# Altium integrated library TI Data Converters Analog to Digital Converter.IntLib: 2197 symbols (part 61 of 168)
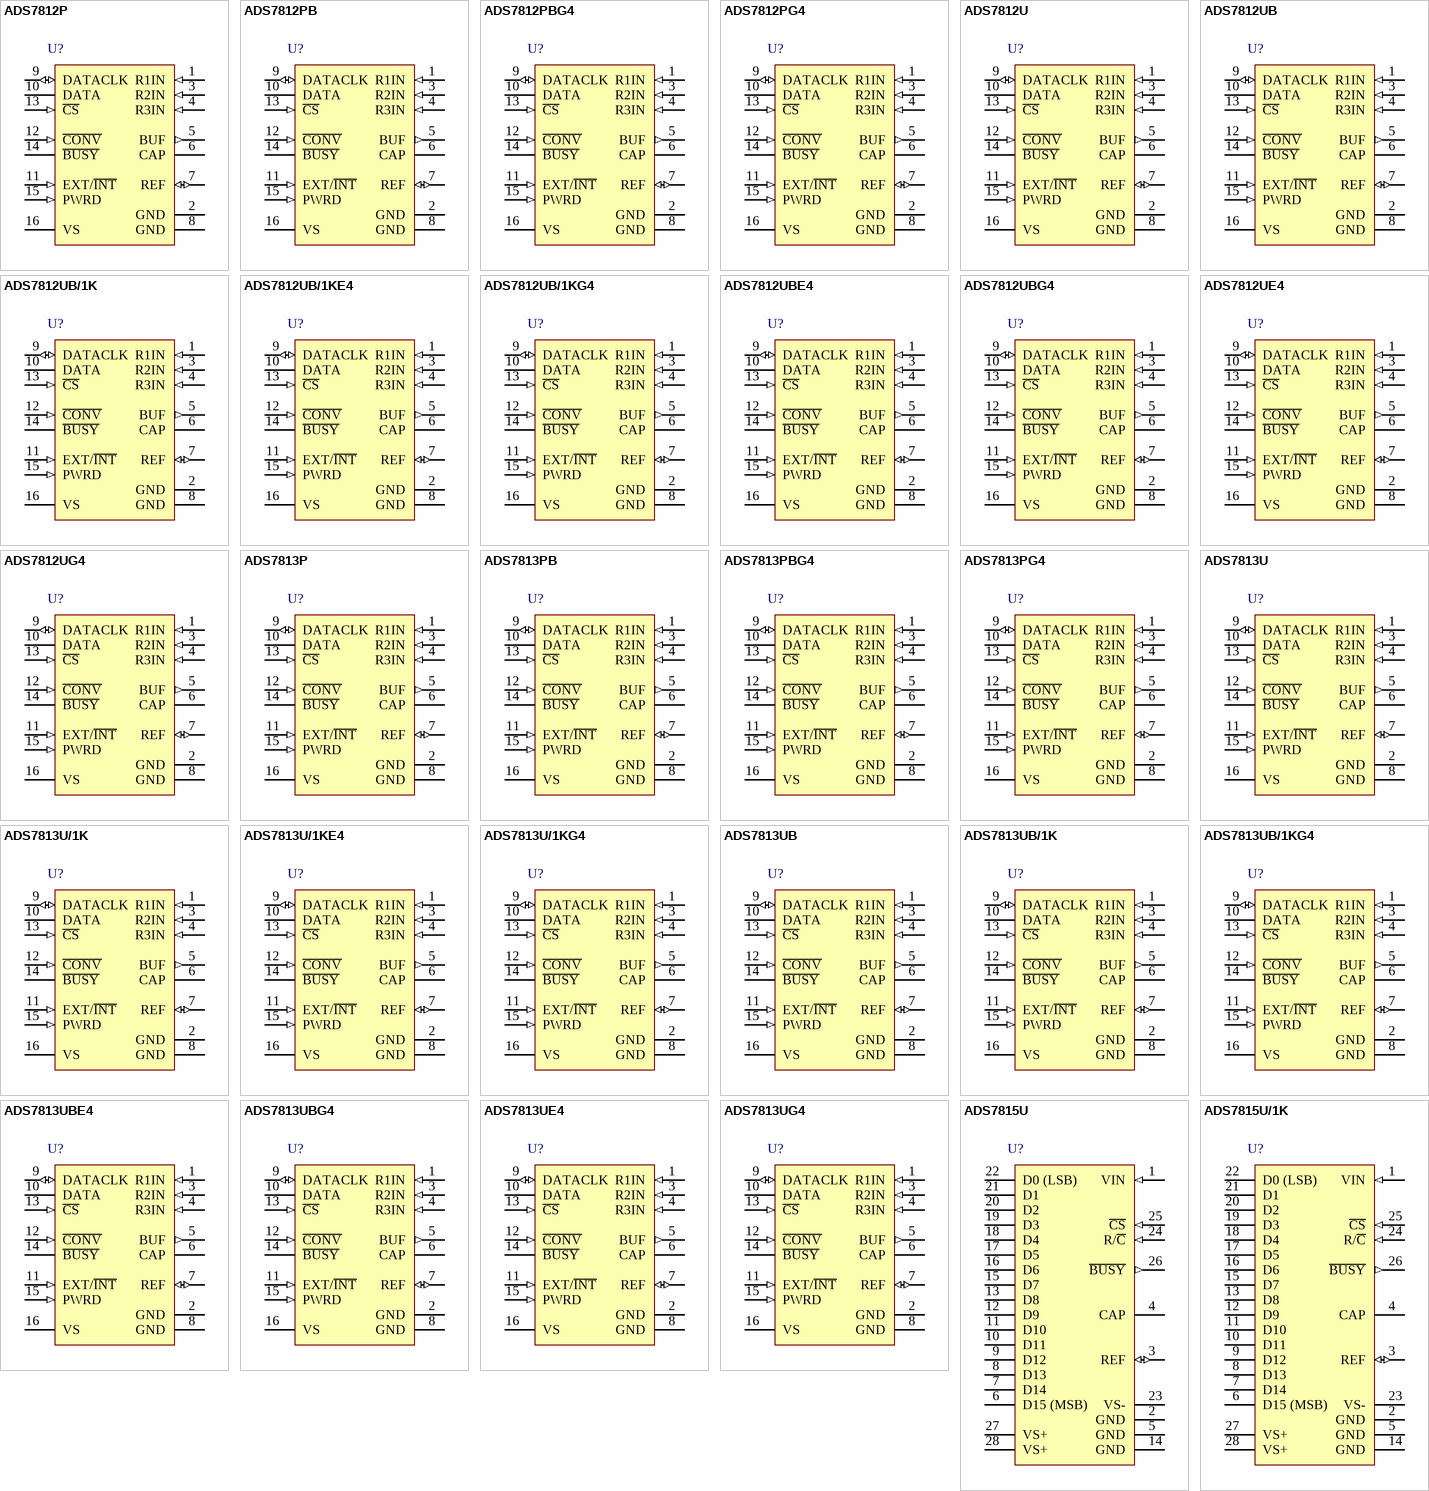
[diagram p186: symbols ADS7812P to ADS7815U/1K]

## ADS7813U/1KG4
designator U?
Low-Power, Serial 16-Bit Sampling ADC, -40 to 85 degC, 16-pin SOIC (DW16), Green (RoHS & no Sb/Br); Manufacturer: Texas Instruments; PartNumber: ADS7813U/1KG4; # Input Channels: 1; Analog Voltage AV/DD(Max)(V): 5.25; Analog Voltage AV/DD(Min)(V): 4.75; Architecture: SAR; INL(Max)(+/-LSB): 3; Interface: Serial SPI; Resolution(Bits): 16; Sample Rate (max)(SPS): 40k; SFDR(dB): 100; SINAD(dB): 89; SubFamily: Precision ADC (<=10MSPS); DatasheetVersion: SBAS043C; PackageVersion: 4040000-2/G, 01/2011; PackageReference: DW16; PackageDescription: 16-Pin Plastic Small Outline, Body 10.30 x 7.50 mm, Pitch 1.27 mm; Supplier 1: Digi-Key; Supplier Part Number 1: 296-19396-2-ND; Supplier 2: Digi-Key; Supplier Part Number 2: 296-19396-1-ND; Supplier 3: Digi-Key; Supplier Part Number 3: 296-19396-6-ND; Supplier 4: Mouser; Supplier Part Number 4: 595-ADS8413IBRGZT; Digital Supply(Max)(V): 5.25; Digital Supply(Min)(V): 4.75; Eco-Plan: Green (RoHS & no Sb/Br); SNR(dB): 89; Mounting Technology: Surface Mount; Code_JEDEC: MS-013; ComponentLink1Description: Manufacturer URL; ComponentLink1URL: http://www.ti.com/; ComponentLink2Description: Datasheet; ComponentLink2URL: http://www.ti.com/general/docs/lit/getliterature.tsp?genericPartNumber=ADS7813&fileType=pdf; ComponentLink3Description: Package Specification; ComponentLink3URL: http://www.ti.com/litv/pdf/msoi003g
footprint TI-DW16_N (SOIC, 16-Leads, Body 10.3x7.5mm, Pitch 1.27mm, IPC Medium Density)
footprint TI-DW16_L (SOIC, 16-Leads, Body 10.3x7.5mm, Pitch 1.27mm, IPC High Density)
footprint TI-DW16_M (SOIC, 16-Leads, Body 10.3x7.5mm, Pitch 1.27mm, IPC Low Density)
pins: 1 R1IN (in) "Analog input", 2 GND (power) "Ground.", 3 R2IN (in) "Analog input", 4 R3IN (in) "Analog input", 5 BUF (out) "Reference buffer output. Connect to R1IN, R2IN, or R3IN as needed", 6 CAP "Reference buffer compensation node. Decouple to ground with a 1-uF tantalum capacitor in parallel with a 0.01uF ceramic capacitor.", 7 REF (io) "Reference input/output. Outputs internal 2.5V reference via a series 4kohm resistor. Decouple this voltage with a 1uF to 2.2uF tantalum capacitor to ground. If an external reference voltage is applied to this pin, it (See Datasheet)", 8 GND (power) "Ground.", 9 DATACLK (io) "Data clock pin. With EXT/I\N\T\ low, this pin is an output and provides the synchronous clock for the serial data. The output is 3-stated when C\S\ is high. With EXT/I\N\T\ high, this pin is an input and the serial data (See Datasheet)", 10 DATA (hiz) "Serial data output. The serial data are always the result of the last completed conversion and are synchronized to DATACLK. If DATACLK is from the internal clock (EXT/I\N\T\ low), the serial data are valid on both the rising (See Datasheet)", 11 EXT/~{INT} (in), 12 ~{CONV} (in) "Convert input. A falling edge on this input puts the internal sample/hold into the hold state and starts a conversion regardless of the state of C\S\. If a conversion is already in progress, the falling edge is ignored. If (See Datasheet)", 13 ~{CS} (in) "Chip select. This input 3-states all outputs when high and enables all outputs when low, including DATA, B\U\S\Y\, and DATACLK (when EXT/I\N\T\ is low). Note that a falling edge on C\O\N\V\ initiates a conversion even when (See Datasheet)", 14 ~{BUSY} (hiz) "Busy output. When a conversion starts, B\U\S\Y\ goes low and remains low throughout the conversion. If EXT/I\N\T\ is low, data are serially transmitted while B\U\S\Y\ is low. B\U\S\Y\ is 3-stated when C\S\ is high.", 15 PWRD (in) "Power-down input. When high, the majority of the ADS7812/ADS7813/ADS8513 circuitry is placed in a low-power mode and power consumption is significantly reduced.", 16 VS (power) "+5V supply input. For best performance, decouple to ground with a 0.1uF ceramic capacitor in parallel with a 10uF tantalum capacitor."

## ADS7813UB
designator U?
Low-Power, Serial 16-Bit Sampling ADC, -40 to 85 degC, 16-pin SOIC (DW16), Green (RoHS & no Sb/Br); Manufacturer: Texas Instruments; PartNumber: ADS7813UB; # Input Channels: 1; Analog Voltage AV/DD(Max)(V): 5.25; Analog Voltage AV/DD(Min)(V): 4.75; Architecture: SAR; INL(Max)(+/-LSB): 2; Interface: Serial SPI; Resolution(Bits): 16; Sample Rate (max)(SPS): 40k; SFDR(dB): 102; SINAD(dB): 89; SubFamily: Precision ADC (<=10MSPS); DatasheetVersion: SBAS043C; PackageVersion: 4040000-2/G, 01/2011; PackageReference: DW16; PackageDescription: 16-Pin Plastic Small Outline, Body 10.30 x 7.50 mm, Pitch 1.27 mm; Supplier 1: Digi-Key; Supplier Part Number 1: ADS8413IBRGZTG4-ND; Supplier 2: Mouser; Supplier Part Number 2: 595-ADS8413IBRGZTG4; Digital Supply(Max)(V): 5.25; Digital Supply(Min)(V): 4.75; Eco-Plan: Green (RoHS & no Sb/Br); SNR(dB): 89; Mounting Technology: Surface Mount; Code_JEDEC: MS-013; ComponentLink1Description: Manufacturer URL; ComponentLink1URL: http://www.ti.com/; ComponentLink2Description: Datasheet; ComponentLink2URL: http://www.ti.com/general/docs/lit/getliterature.tsp?genericPartNumber=ADS7813&fileType=pdf; ComponentLink3Description: Package Specification; ComponentLink3URL: http://www.ti.com/litv/pdf/msoi003g
footprint TI-DW16_N (SOIC, 16-Leads, Body 10.3x7.5mm, Pitch 1.27mm, IPC Medium Density)
footprint TI-DW16_L (SOIC, 16-Leads, Body 10.3x7.5mm, Pitch 1.27mm, IPC High Density)
footprint TI-DW16_M (SOIC, 16-Leads, Body 10.3x7.5mm, Pitch 1.27mm, IPC Low Density)
pins: 1 R1IN (in) "Analog input", 2 GND (power) "Ground.", 3 R2IN (in) "Analog input", 4 R3IN (in) "Analog input", 5 BUF (out) "Reference buffer output. Connect to R1IN, R2IN, or R3IN as needed", 6 CAP "Reference buffer compensation node. Decouple to ground with a 1-uF tantalum capacitor in parallel with a 0.01uF ceramic capacitor.", 7 REF (io) "Reference input/output. Outputs internal 2.5V reference via a series 4kohm resistor. Decouple this voltage with a 1uF to 2.2uF tantalum capacitor to ground. If an external reference voltage is applied to this pin, it (See Datasheet)", 8 GND (power) "Ground.", 9 DATACLK (io) "Data clock pin. With EXT/I\N\T\ low, this pin is an output and provides the synchronous clock for the serial data. The output is 3-stated when C\S\ is high. With EXT/I\N\T\ high, this pin is an input and the serial data (See Datasheet)", 10 DATA (hiz) "Serial data output. The serial data are always the result of the last completed conversion and are synchronized to DATACLK. If DATACLK is from the internal clock (EXT/I\N\T\ low), the serial data are valid on both the rising (See Datasheet)", 11 EXT/~{INT} (in), 12 ~{CONV} (in) "Convert input. A falling edge on this input puts the internal sample/hold into the hold state and starts a conversion regardless of the state of C\S\. If a conversion is already in progress, the falling edge is ignored. If (See Datasheet)", 13 ~{CS} (in) "Chip select. This input 3-states all outputs when high and enables all outputs when low, including DATA, B\U\S\Y\, and DATACLK (when EXT/I\N\T\ is low). Note that a falling edge on C\O\N\V\ initiates a conversion even when (See Datasheet)", 14 ~{BUSY} (hiz) "Busy output. When a conversion starts, B\U\S\Y\ goes low and remains low throughout the conversion. If EXT/I\N\T\ is low, data are serially transmitted while B\U\S\Y\ is low. B\U\S\Y\ is 3-stated when C\S\ is high.", 15 PWRD (in) "Power-down input. When high, the majority of the ADS7812/ADS7813/ADS8513 circuitry is placed in a low-power mode and power consumption is significantly reduced.", 16 VS (power) "+5V supply input. For best performance, decouple to ground with a 0.1uF ceramic capacitor in parallel with a 10uF tantalum capacitor."

## ADS7813UB/1K
designator U?
Low-Power, Serial 16-Bit Sampling ADC, -40 to 85 degC, 16-pin SOIC (DW16), Green (RoHS & no Sb/Br); Manufacturer: Texas Instruments; PartNumber: ADS7813UB/1K; # Input Channels: 1; Analog Voltage AV/DD(Max)(V): 5.25; Analog Voltage AV/DD(Min)(V): 4.75; Architecture: SAR; INL(Max)(+/-LSB): 2; Interface: Serial SPI; Resolution(Bits): 16; Sample Rate (max)(SPS): 40k; SFDR(dB): 102; SINAD(dB): 89; SubFamily: Precision ADC (<=10MSPS); DatasheetVersion: SBAS043C; PackageVersion: 4040000-2/G, 01/2011; PackageReference: DW16; PackageDescription: 16-Pin Plastic Small Outline, Body 10.30 x 7.50 mm, Pitch 1.27 mm; Supplier 1: Digi-Key; Supplier Part Number 1: ADS1258IRTCR-ND; Supplier 2: Newark; Supplier Part Number 2: 63K4827; Supplier 3: Mouser; Supplier Part Number 3: 595-ADS1258IRTCR; Digital Supply(Max)(V): 5.25; Digital Supply(Min)(V): 4.75; Eco-Plan: Green (RoHS & no Sb/Br); SNR(dB): 89; Mounting Technology: Surface Mount; Code_JEDEC: MS-013; ComponentLink1Description: Manufacturer URL; ComponentLink1URL: http://www.ti.com/; ComponentLink2Description: Datasheet; ComponentLink2URL: http://www.ti.com/general/docs/lit/getliterature.tsp?genericPartNumber=ADS7813&fileType=pdf; ComponentLink3Description: Package Specification; ComponentLink3URL: http://www.ti.com/litv/pdf/msoi003g
footprint TI-DW16_N (SOIC, 16-Leads, Body 10.3x7.5mm, Pitch 1.27mm, IPC Medium Density)
footprint TI-DW16_L (SOIC, 16-Leads, Body 10.3x7.5mm, Pitch 1.27mm, IPC High Density)
footprint TI-DW16_M (SOIC, 16-Leads, Body 10.3x7.5mm, Pitch 1.27mm, IPC Low Density)
pins: 1 R1IN (in) "Analog input", 2 GND (power) "Ground.", 3 R2IN (in) "Analog input", 4 R3IN (in) "Analog input", 5 BUF (out) "Reference buffer output. Connect to R1IN, R2IN, or R3IN as needed", 6 CAP "Reference buffer compensation node. Decouple to ground with a 1-uF tantalum capacitor in parallel with a 0.01uF ceramic capacitor.", 7 REF (io) "Reference input/output. Outputs internal 2.5V reference via a series 4kohm resistor. Decouple this voltage with a 1uF to 2.2uF tantalum capacitor to ground. If an external reference voltage is applied to this pin, it (See Datasheet)", 8 GND (power) "Ground.", 9 DATACLK (io) "Data clock pin. With EXT/I\N\T\ low, this pin is an output and provides the synchronous clock for the serial data. The output is 3-stated when C\S\ is high. With EXT/I\N\T\ high, this pin is an input and the serial data (See Datasheet)", 10 DATA (hiz) "Serial data output. The serial data are always the result of the last completed conversion and are synchronized to DATACLK. If DATACLK is from the internal clock (EXT/I\N\T\ low), the serial data are valid on both the rising (See Datasheet)", 11 EXT/~{INT} (in), 12 ~{CONV} (in) "Convert input. A falling edge on this input puts the internal sample/hold into the hold state and starts a conversion regardless of the state of C\S\. If a conversion is already in progress, the falling edge is ignored. If (See Datasheet)", 13 ~{CS} (in) "Chip select. This input 3-states all outputs when high and enables all outputs when low, including DATA, B\U\S\Y\, and DATACLK (when EXT/I\N\T\ is low). Note that a falling edge on C\O\N\V\ initiates a conversion even when (See Datasheet)", 14 ~{BUSY} (hiz) "Busy output. When a conversion starts, B\U\S\Y\ goes low and remains low throughout the conversion. If EXT/I\N\T\ is low, data are serially transmitted while B\U\S\Y\ is low. B\U\S\Y\ is 3-stated when C\S\ is high.", 15 PWRD (in) "Power-down input. When high, the majority of the ADS7812/ADS7813/ADS8513 circuitry is placed in a low-power mode and power consumption is significantly reduced.", 16 VS (power) "+5V supply input. For best performance, decouple to ground with a 0.1uF ceramic capacitor in parallel with a 10uF tantalum capacitor."

## ADS7813UB/1KG4
designator U?
Low-Power, Serial 16-Bit Sampling ADC, -40 to 85 degC, 16-pin SOIC (DW16), Green (RoHS & no Sb/Br); Manufacturer: Texas Instruments; PartNumber: ADS7813UB/1KG4; # Input Channels: 1; Analog Voltage AV/DD(Max)(V): 5.25; Analog Voltage AV/DD(Min)(V): 4.75; Architecture: SAR; INL(Max)(+/-LSB): 2; Interface: Serial SPI; Resolution(Bits): 16; Sample Rate (max)(SPS): 40k; SFDR(dB): 102; SINAD(dB): 89; SubFamily: Precision ADC (<=10MSPS); DatasheetVersion: SBAS043C; PackageVersion: 4040000-2/G, 01/2011; PackageReference: DW16; PackageDescription: 16-Pin Plastic Small Outline, Body 10.30 x 7.50 mm, Pitch 1.27 mm; Supplier 1: Digi-Key; Supplier Part Number 1: ADS1258IRTCRG4-ND; Supplier 2: Mouser; Supplier Part Number 2: 595-ADS1258IRTCRG4; Digital Supply(Max)(V): 5.25; Digital Supply(Min)(V): 4.75; Eco-Plan: Green (RoHS & no Sb/Br); SNR(dB): 89; Mounting Technology: Surface Mount; Code_JEDEC: MS-013; ComponentLink1Description: Manufacturer URL; ComponentLink1URL: http://www.ti.com/; ComponentLink2Description: Datasheet; ComponentLink2URL: http://www.ti.com/general/docs/lit/getliterature.tsp?genericPartNumber=ADS7813&fileType=pdf; ComponentLink3Description: Package Specification; ComponentLink3URL: http://www.ti.com/litv/pdf/msoi003g
footprint TI-DW16_N (SOIC, 16-Leads, Body 10.3x7.5mm, Pitch 1.27mm, IPC Medium Density)
footprint TI-DW16_L (SOIC, 16-Leads, Body 10.3x7.5mm, Pitch 1.27mm, IPC High Density)
footprint TI-DW16_M (SOIC, 16-Leads, Body 10.3x7.5mm, Pitch 1.27mm, IPC Low Density)
pins: 1 R1IN (in) "Analog input", 2 GND (power) "Ground.", 3 R2IN (in) "Analog input", 4 R3IN (in) "Analog input", 5 BUF (out) "Reference buffer output. Connect to R1IN, R2IN, or R3IN as needed", 6 CAP "Reference buffer compensation node. Decouple to ground with a 1-uF tantalum capacitor in parallel with a 0.01uF ceramic capacitor.", 7 REF (io) "Reference input/output. Outputs internal 2.5V reference via a series 4kohm resistor. Decouple this voltage with a 1uF to 2.2uF tantalum capacitor to ground. If an external reference voltage is applied to this pin, it (See Datasheet)", 8 GND (power) "Ground.", 9 DATACLK (io) "Data clock pin. With EXT/I\N\T\ low, this pin is an output and provides the synchronous clock for the serial data. The output is 3-stated when C\S\ is high. With EXT/I\N\T\ high, this pin is an input and the serial data (See Datasheet)", 10 DATA (hiz) "Serial data output. The serial data are always the result of the last completed conversion and are synchronized to DATACLK. If DATACLK is from the internal clock (EXT/I\N\T\ low), the serial data are valid on both the rising (See Datasheet)", 11 EXT/~{INT} (in), 12 ~{CONV} (in) "Convert input. A falling edge on this input puts the internal sample/hold into the hold state and starts a conversion regardless of the state of C\S\. If a conversion is already in progress, the falling edge is ignored. If (See Datasheet)", 13 ~{CS} (in) "Chip select. This input 3-states all outputs when high and enables all outputs when low, including DATA, B\U\S\Y\, and DATACLK (when EXT/I\N\T\ is low). Note that a falling edge on C\O\N\V\ initiates a conversion even when (See Datasheet)", 14 ~{BUSY} (hiz) "Busy output. When a conversion starts, B\U\S\Y\ goes low and remains low throughout the conversion. If EXT/I\N\T\ is low, data are serially transmitted while B\U\S\Y\ is low. B\U\S\Y\ is 3-stated when C\S\ is high.", 15 PWRD (in) "Power-down input. When high, the majority of the ADS7812/ADS7813/ADS8513 circuitry is placed in a low-power mode and power consumption is significantly reduced.", 16 VS (power) "+5V supply input. For best performance, decouple to ground with a 0.1uF ceramic capacitor in parallel with a 10uF tantalum capacitor."

## ADS7813UBE4
designator U?
Low-Power, Serial 16-Bit Sampling ADC, -40 to 85 degC, 16-pin SOIC (DW16), Green (RoHS & no Sb/Br); Manufacturer: Texas Instruments; PartNumber: ADS7813UBE4; # Input Channels: 1; Analog Voltage AV/DD(Max)(V): 5.25; Analog Voltage AV/DD(Min)(V): 4.75; Architecture: SAR; INL(Max)(+/-LSB): 2; Interface: Serial SPI; Resolution(Bits): 16; Sample Rate (max)(SPS): 40k; SFDR(dB): 102; SINAD(dB): 89; SubFamily: Precision ADC (<=10MSPS); DatasheetVersion: SBAS043C; PackageVersion: 4040000-2/G, 01/2011; PackageReference: DW16; PackageDescription: 16-Pin Plastic Small Outline, Body 10.30 x 7.50 mm, Pitch 1.27 mm; Supplier 1: Digi-Key; Supplier Part Number 1: 296-18674-2-ND; Supplier 2: Digi-Key; Supplier Part Number 2: 296-18674-1-ND; Supplier 3: Digi-Key; Supplier Part Number 3: 296-18674-6-ND; Supplier 4: Farnell; Supplier Part Number 4: 1470335; Supplier 5: Newark; Supplier Part Number 5: 63K4828; Supplier 6: Mouser; Supplier Part Number 6: 595-ADS1258IRTCT; Digital Supply(Max)(V): 5.25; Digital Supply(Min)(V): 4.75; Eco-Plan: Green (RoHS & no Sb/Br); SNR(dB): 89; Mounting Technology: Surface Mount; Code_JEDEC: MS-013; ComponentLink1Description: Manufacturer URL; ComponentLink1URL: http://www.ti.com/; ComponentLink2Description: Datasheet; ComponentLink2URL: http://www.ti.com/general/docs/lit/getliterature.tsp?genericPartNumber=ADS7813&fileType=pdf; ComponentLink3Description: Package Specification; ComponentLink3URL: http://www.ti.com/litv/pdf/msoi003g
footprint TI-DW16_N (SOIC, 16-Leads, Body 10.3x7.5mm, Pitch 1.27mm, IPC Medium Density)
footprint TI-DW16_L (SOIC, 16-Leads, Body 10.3x7.5mm, Pitch 1.27mm, IPC High Density)
footprint TI-DW16_M (SOIC, 16-Leads, Body 10.3x7.5mm, Pitch 1.27mm, IPC Low Density)
pins: 1 R1IN (in) "Analog input", 2 GND (power) "Ground.", 3 R2IN (in) "Analog input", 4 R3IN (in) "Analog input", 5 BUF (out) "Reference buffer output. Connect to R1IN, R2IN, or R3IN as needed", 6 CAP "Reference buffer compensation node. Decouple to ground with a 1-uF tantalum capacitor in parallel with a 0.01uF ceramic capacitor.", 7 REF (io) "Reference input/output. Outputs internal 2.5V reference via a series 4kohm resistor. Decouple this voltage with a 1uF to 2.2uF tantalum capacitor to ground. If an external reference voltage is applied to this pin, it (See Datasheet)", 8 GND (power) "Ground.", 9 DATACLK (io) "Data clock pin. With EXT/I\N\T\ low, this pin is an output and provides the synchronous clock for the serial data. The output is 3-stated when C\S\ is high. With EXT/I\N\T\ high, this pin is an input and the serial data (See Datasheet)", 10 DATA (hiz) "Serial data output. The serial data are always the result of the last completed conversion and are synchronized to DATACLK. If DATACLK is from the internal clock (EXT/I\N\T\ low), the serial data are valid on both the rising (See Datasheet)", 11 EXT/~{INT} (in), 12 ~{CONV} (in) "Convert input. A falling edge on this input puts the internal sample/hold into the hold state and starts a conversion regardless of the state of C\S\. If a conversion is already in progress, the falling edge is ignored. If (See Datasheet)", 13 ~{CS} (in) "Chip select. This input 3-states all outputs when high and enables all outputs when low, including DATA, B\U\S\Y\, and DATACLK (when EXT/I\N\T\ is low). Note that a falling edge on C\O\N\V\ initiates a conversion even when (See Datasheet)", 14 ~{BUSY} (hiz) "Busy output. When a conversion starts, B\U\S\Y\ goes low and remains low throughout the conversion. If EXT/I\N\T\ is low, data are serially transmitted while B\U\S\Y\ is low. B\U\S\Y\ is 3-stated when C\S\ is high.", 15 PWRD (in) "Power-down input. When high, the majority of the ADS7812/ADS7813/ADS8513 circuitry is placed in a low-power mode and power consumption is significantly reduced.", 16 VS (power) "+5V supply input. For best performance, decouple to ground with a 0.1uF ceramic capacitor in parallel with a 10uF tantalum capacitor."

## ADS7813UBG4
designator U?
Low-Power, Serial 16-Bit Sampling ADC, -40 to 85 degC, 16-pin SOIC (DW16), Green (RoHS & no Sb/Br); Manufacturer: Texas Instruments; PartNumber: ADS7813UBG4; # Input Channels: 1; Analog Voltage AV/DD(Max)(V): 5.25; Analog Voltage AV/DD(Min)(V): 4.75; Architecture: SAR; INL(Max)(+/-LSB): 2; Interface: Serial SPI; Resolution(Bits): 16; Sample Rate (max)(SPS): 40k; SFDR(dB): 102; SINAD(dB): 89; SubFamily: Precision ADC (<=10MSPS); DatasheetVersion: SBAS043C; PackageVersion: 4040000-2/G, 01/2011; PackageReference: DW16; PackageDescription: 16-Pin Plastic Small Outline, Body 10.30 x 7.50 mm, Pitch 1.27 mm; Supplier 1: Digi-Key; Supplier Part Number 1: ADS1258IRTCTG4-ND; Supplier 2: Farnell; Supplier Part Number 2: 1230452; Supplier 3: Newark; Supplier Part Number 3: 69K8577; Supplier 4: Mouser; Supplier Part Number 4: 595-ADS1258IRTCTG4; Digital Supply(Max)(V): 5.25; Digital Supply(Min)(V): 4.75; Eco-Plan: Green (RoHS & no Sb/Br); SNR(dB): 89; Mounting Technology: Surface Mount; Code_JEDEC: MS-013; ComponentLink1Description: Manufacturer URL; ComponentLink1URL: http://www.ti.com/; ComponentLink2Description: Datasheet; ComponentLink2URL: http://www.ti.com/general/docs/lit/getliterature.tsp?genericPartNumber=ADS7813&fileType=pdf; ComponentLink3Description: Package Specification; ComponentLink3URL: http://www.ti.com/litv/pdf/msoi003g
footprint TI-DW16_N (SOIC, 16-Leads, Body 10.3x7.5mm, Pitch 1.27mm, IPC Medium Density)
footprint TI-DW16_L (SOIC, 16-Leads, Body 10.3x7.5mm, Pitch 1.27mm, IPC High Density)
footprint TI-DW16_M (SOIC, 16-Leads, Body 10.3x7.5mm, Pitch 1.27mm, IPC Low Density)
pins: 1 R1IN (in) "Analog input", 2 GND (power) "Ground.", 3 R2IN (in) "Analog input", 4 R3IN (in) "Analog input", 5 BUF (out) "Reference buffer output. Connect to R1IN, R2IN, or R3IN as needed", 6 CAP "Reference buffer compensation node. Decouple to ground with a 1-uF tantalum capacitor in parallel with a 0.01uF ceramic capacitor.", 7 REF (io) "Reference input/output. Outputs internal 2.5V reference via a series 4kohm resistor. Decouple this voltage with a 1uF to 2.2uF tantalum capacitor to ground. If an external reference voltage is applied to this pin, it (See Datasheet)", 8 GND (power) "Ground.", 9 DATACLK (io) "Data clock pin. With EXT/I\N\T\ low, this pin is an output and provides the synchronous clock for the serial data. The output is 3-stated when C\S\ is high. With EXT/I\N\T\ high, this pin is an input and the serial data (See Datasheet)", 10 DATA (hiz) "Serial data output. The serial data are always the result of the last completed conversion and are synchronized to DATACLK. If DATACLK is from the internal clock (EXT/I\N\T\ low), the serial data are valid on both the rising (See Datasheet)", 11 EXT/~{INT} (in), 12 ~{CONV} (in) "Convert input. A falling edge on this input puts the internal sample/hold into the hold state and starts a conversion regardless of the state of C\S\. If a conversion is already in progress, the falling edge is ignored. If (See Datasheet)", 13 ~{CS} (in) "Chip select. This input 3-states all outputs when high and enables all outputs when low, including DATA, B\U\S\Y\, and DATACLK (when EXT/I\N\T\ is low). Note that a falling edge on C\O\N\V\ initiates a conversion even when (See Datasheet)", 14 ~{BUSY} (hiz) "Busy output. When a conversion starts, B\U\S\Y\ goes low and remains low throughout the conversion. If EXT/I\N\T\ is low, data are serially transmitted while B\U\S\Y\ is low. B\U\S\Y\ is 3-stated when C\S\ is high.", 15 PWRD (in) "Power-down input. When high, the majority of the ADS7812/ADS7813/ADS8513 circuitry is placed in a low-power mode and power consumption is significantly reduced.", 16 VS (power) "+5V supply input. For best performance, decouple to ground with a 0.1uF ceramic capacitor in parallel with a 10uF tantalum capacitor."

## ADS7813UE4
designator U?
Low-Power, Serial 16-Bit Sampling ADC, -40 to 85 degC, 16-pin SOIC (DW16), Green (RoHS & no Sb/Br); Manufacturer: Texas Instruments; PartNumber: ADS7813UE4; # Input Channels: 1; Analog Voltage AV/DD(Max)(V): 5.25; Analog Voltage AV/DD(Min)(V): 4.75; Architecture: SAR; INL(Max)(+/-LSB): 3; Interface: Serial SPI; Resolution(Bits): 16; Sample Rate (max)(SPS): 40k; SFDR(dB): 100; SINAD(dB): 89; SubFamily: Precision ADC (<=10MSPS); DatasheetVersion: SBAS043C; PackageVersion: 4040000-2/G, 01/2011; PackageReference: DW16; PackageDescription: 16-Pin Plastic Small Outline, Body 10.30 x 7.50 mm, Pitch 1.27 mm; Supplier 1: Digi-Key; Supplier Part Number 1: DDC118IRTCR-ND; Supplier 2: Newark; Supplier Part Number 2: 43K3297; Supplier 3: Mouser; Supplier Part Number 3: 595-DDC118IRTCR; Digital Supply(Max)(V): 5.25; Digital Supply(Min)(V): 4.75; Eco-Plan: Green (RoHS & no Sb/Br); SNR(dB): 89; Mounting Technology: Surface Mount; Code_JEDEC: MS-013; ComponentLink1Description: Manufacturer URL; ComponentLink1URL: http://www.ti.com/; ComponentLink2Description: Datasheet; ComponentLink2URL: http://www.ti.com/general/docs/lit/getliterature.tsp?genericPartNumber=ADS7813&fileType=pdf; ComponentLink3Description: Package Specification; ComponentLink3URL: http://www.ti.com/litv/pdf/msoi003g
footprint TI-DW16_N (SOIC, 16-Leads, Body 10.3x7.5mm, Pitch 1.27mm, IPC Medium Density)
footprint TI-DW16_L (SOIC, 16-Leads, Body 10.3x7.5mm, Pitch 1.27mm, IPC High Density)
footprint TI-DW16_M (SOIC, 16-Leads, Body 10.3x7.5mm, Pitch 1.27mm, IPC Low Density)
pins: 1 R1IN (in) "Analog input", 2 GND (power) "Ground.", 3 R2IN (in) "Analog input", 4 R3IN (in) "Analog input", 5 BUF (out) "Reference buffer output. Connect to R1IN, R2IN, or R3IN as needed", 6 CAP "Reference buffer compensation node. Decouple to ground with a 1-uF tantalum capacitor in parallel with a 0.01uF ceramic capacitor.", 7 REF (io) "Reference input/output. Outputs internal 2.5V reference via a series 4kohm resistor. Decouple this voltage with a 1uF to 2.2uF tantalum capacitor to ground. If an external reference voltage is applied to this pin, it (See Datasheet)", 8 GND (power) "Ground.", 9 DATACLK (io) "Data clock pin. With EXT/I\N\T\ low, this pin is an output and provides the synchronous clock for the serial data. The output is 3-stated when C\S\ is high. With EXT/I\N\T\ high, this pin is an input and the serial data (See Datasheet)", 10 DATA (hiz) "Serial data output. The serial data are always the result of the last completed conversion and are synchronized to DATACLK. If DATACLK is from the internal clock (EXT/I\N\T\ low), the serial data are valid on both the rising (See Datasheet)", 11 EXT/~{INT} (in), 12 ~{CONV} (in) "Convert input. A falling edge on this input puts the internal sample/hold into the hold state and starts a conversion regardless of the state of C\S\. If a conversion is already in progress, the falling edge is ignored. If (See Datasheet)", 13 ~{CS} (in) "Chip select. This input 3-states all outputs when high and enables all outputs when low, including DATA, B\U\S\Y\, and DATACLK (when EXT/I\N\T\ is low). Note that a falling edge on C\O\N\V\ initiates a conversion even when (See Datasheet)", 14 ~{BUSY} (hiz) "Busy output. When a conversion starts, B\U\S\Y\ goes low and remains low throughout the conversion. If EXT/I\N\T\ is low, data are serially transmitted while B\U\S\Y\ is low. B\U\S\Y\ is 3-stated when C\S\ is high.", 15 PWRD (in) "Power-down input. When high, the majority of the ADS7812/ADS7813/ADS8513 circuitry is placed in a low-power mode and power consumption is significantly reduced.", 16 VS (power) "+5V supply input. For best performance, decouple to ground with a 0.1uF ceramic capacitor in parallel with a 10uF tantalum capacitor."

## ADS7813UG4
designator U?
Low-Power, Serial 16-Bit Sampling ADC, -40 to 85 degC, 16-pin SOIC (DW16), Green (RoHS & no Sb/Br); Manufacturer: Texas Instruments; PartNumber: ADS7813UG4; # Input Channels: 1; Analog Voltage AV/DD(Max)(V): 5.25; Analog Voltage AV/DD(Min)(V): 4.75; Architecture: SAR; INL(Max)(+/-LSB): 3; Interface: Serial SPI; Resolution(Bits): 16; Sample Rate (max)(SPS): 40k; SFDR(dB): 100; SINAD(dB): 89; SubFamily: Precision ADC (<=10MSPS); DatasheetVersion: SBAS043C; PackageVersion: 4040000-2/G, 01/2011; PackageReference: DW16; PackageDescription: 16-Pin Plastic Small Outline, Body 10.30 x 7.50 mm, Pitch 1.27 mm; Supplier 1: Digi-Key; Supplier Part Number 1: DDC118IRTCRG4-ND; Supplier 2: Mouser; Supplier Part Number 2: 595-DDC118IRTCRG4; Digital Supply(Max)(V): 5.25; Digital Supply(Min)(V): 4.75; Eco-Plan: Green (RoHS & no Sb/Br); SNR(dB): 89; Mounting Technology: Surface Mount; Code_JEDEC: MS-013; ComponentLink1Description: Manufacturer URL; ComponentLink1URL: http://www.ti.com/; ComponentLink2Description: Datasheet; ComponentLink2URL: http://www.ti.com/general/docs/lit/getliterature.tsp?genericPartNumber=ADS7813&fileType=pdf; ComponentLink3Description: Package Specification; ComponentLink3URL: http://www.ti.com/litv/pdf/msoi003g
footprint TI-DW16_N (SOIC, 16-Leads, Body 10.3x7.5mm, Pitch 1.27mm, IPC Medium Density)
footprint TI-DW16_L (SOIC, 16-Leads, Body 10.3x7.5mm, Pitch 1.27mm, IPC High Density)
footprint TI-DW16_M (SOIC, 16-Leads, Body 10.3x7.5mm, Pitch 1.27mm, IPC Low Density)
pins: 1 R1IN (in) "Analog input", 2 GND (power) "Ground.", 3 R2IN (in) "Analog input", 4 R3IN (in) "Analog input", 5 BUF (out) "Reference buffer output. Connect to R1IN, R2IN, or R3IN as needed", 6 CAP "Reference buffer compensation node. Decouple to ground with a 1-uF tantalum capacitor in parallel with a 0.01uF ceramic capacitor.", 7 REF (io) "Reference input/output. Outputs internal 2.5V reference via a series 4kohm resistor. Decouple this voltage with a 1uF to 2.2uF tantalum capacitor to ground. If an external reference voltage is applied to this pin, it (See Datasheet)", 8 GND (power) "Ground.", 9 DATACLK (io) "Data clock pin. With EXT/I\N\T\ low, this pin is an output and provides the synchronous clock for the serial data. The output is 3-stated when C\S\ is high. With EXT/I\N\T\ high, this pin is an input and the serial data (See Datasheet)", 10 DATA (hiz) "Serial data output. The serial data are always the result of the last completed conversion and are synchronized to DATACLK. If DATACLK is from the internal clock (EXT/I\N\T\ low), the serial data are valid on both the rising (See Datasheet)", 11 EXT/~{INT} (in), 12 ~{CONV} (in) "Convert input. A falling edge on this input puts the internal sample/hold into the hold state and starts a conversion regardless of the state of C\S\. If a conversion is already in progress, the falling edge is ignored. If (See Datasheet)", 13 ~{CS} (in) "Chip select. This input 3-states all outputs when high and enables all outputs when low, including DATA, B\U\S\Y\, and DATACLK (when EXT/I\N\T\ is low). Note that a falling edge on C\O\N\V\ initiates a conversion even when (See Datasheet)", 14 ~{BUSY} (hiz) "Busy output. When a conversion starts, B\U\S\Y\ goes low and remains low throughout the conversion. If EXT/I\N\T\ is low, data are serially transmitted while B\U\S\Y\ is low. B\U\S\Y\ is 3-stated when C\S\ is high.", 15 PWRD (in) "Power-down input. When high, the majority of the ADS7812/ADS7813/ADS8513 circuitry is placed in a low-power mode and power consumption is significantly reduced.", 16 VS (power) "+5V supply input. For best performance, decouple to ground with a 0.1uF ceramic capacitor in parallel with a 10uF tantalum capacitor."

## ADS7815U
designator U?
16-Bit 250 kHz Sampling CMOS ADC, -25 to 85 degC, 28-pin SOIC (DW28), Green (RoHS & no Sb/Br); Manufacturer: Texas Instruments; PartNumber: ADS7815U; # Input Channels: 1; Analog Voltage AV/DD(Max)(V): 5.25; Analog Voltage AV/DD(Min)(V): 4.75; Architecture: SAR; INL(Max)(+/-LSB): 4; Interface: Parallel CMOS; Resolution(Bits): 16; Sample Rate (max)(SPS): 250k; SFDR(dB): 100; SubFamily: Precision ADC (<=10MSPS); DatasheetVersion: SBAS065B; PackageVersion: 4040000-6/G, 01/2011; PackageReference: DW28; PackageDescription: 28-Pin Plastic Small Outline, Body 17.90 x 7.50 mm, Pitch 1.27 mm; Supplier 1: Digi-Key; Supplier Part Number 1: 296-18258-2-ND; Supplier 2: Digi-Key; Supplier Part Number 2: 296-18258-1-ND; Supplier 3: Digi-Key; Supplier Part Number 3: 296-18258-6-ND; Supplier 4: Newark; Supplier Part Number 4: 43K3298; Supplier 5: Mouser; Supplier Part Number 5: 595-DDC118IRTCT; Digital Supply(Max)(V): 5.25; Digital Supply(Min)(V): 4.75; Eco-Plan: Green (RoHS & no Sb/Br); Mounting Technology: Surface Mount; Code_JEDEC: MS-013; ComponentLink1Description: Manufacturer URL; ComponentLink1URL: http://www.ti.com/; ComponentLink2Description: Datasheet; ComponentLink2URL: http://www.ti.com/general/docs/lit/getliterature.tsp?genericPartNumber=ADS7815&fileType=pdf; ComponentLink3Description: Package Specification; ComponentLink3URL: http://www.ti.com/lit/ml/mpds175a/mpds175a.pdf
footprint TI-DW28_N (SOIC, 28-Leads, Body 17.9x7.5mm, Pitch 1.27mm, IPC Medium Density)
footprint TI-DW28_L (SOIC, 28-Leads, Body 17.9x7.5mm, Pitch 1.27mm, IPC High Density)
footprint TI-DW28_M (SOIC, 28-Leads, Body 17.9x7.5mm, Pitch 1.27mm, IPC Low Density)
pins: 1 VIN (in) "Analog Input. Full-scale input range is +/-2.5V.", 2 GND (power) "Ground.", 3 REF (io) "Reference Input/Output. Outputs internal reference of +2.5V nominal. Can also be driven by external system reference. In both cases, connect to ground with a 0.1uF ceramic capacitor in parallel with 2.2uF tantalum capacitor.", 4 CAP "Reference compensation capacitor. Use a parallel combination of a 0.1uF ceramic capacitor and a 2.2uF tantalum capacitor.", 5 GND (power) "Ground.", 6 D15 (MSB) (hiz) "Data Bit 15. Most Significant Bit (MSB) of conversion results. Hi-Z state when C\S\ is HIGH, when R/C\is LOW or when a conversion is in progress.", 7 D14 (hiz) "Data Bit 14. Hi-Z state when C\S\ is HIGH, when R/C is LOW or when a conversion is in progress.", 8 D13 (hiz) "Data Bit 13. Hi-Z state when C\S\ is HIGH, when R/C is LOW or when a conversion is in progress.", 9 D12 (hiz) "Data Bit 12. Hi-Z state when C\S\ is HIGH, when R/C is LOW or when a conversion is in progress.", 10 D11 (hiz) "Data Bit 11. Hi-Z state when C\S\ is HIGH, when R/C is LOW or when a conversion is in progress.", 11 D10 (hiz) "Data Bit 10. Hi-Z state when C\S\ is HIGH, when R/C is LOW or when a conversion is in progress.", 12 D9 (hiz) "Data Bit 9. Hi-Z state when C\S\ is HIGH, when R/C is LOW or when a conversion is in progress.", 13 D8 (hiz) "Data Bit 8. Hi-Z state when C\S\ is HIGH, when R/C is LOW or when a conversion is in progress.", 14 GND (power) "Ground.", 15 D7 (hiz) "Data Bit 7. Hi-Z state when C\S\ is HIGH, when R/C is LOW or when a conversion is in progress.", 16 D6 (hiz) "Data Bit 6. Hi-Z state when C\S\ is HIGH, when R/C is LOW or when a conversion is in progress.", 17 D5 (hiz) "Data Bit 5. Hi-Z state when C\S\ is HIGH, when R/C is LOW or when a conversion is in progress.", 18 D4 (hiz) "Data Bit 4. Hi-Z state when C\S\ is HIGH, when R/C is LOW or when a conversion is in progress.", 19 D3 (hiz) "Data Bit 3. Hi-Z state when C\S\ is HIGH, when R/C is LOW or when a conversion is in progress.", 20 D2 (hiz) "Data Bit 2. Hi-Z state when C\S\ is HIGH, when R/C is LOW or when a conversion is in progress.", 21 D1 (hiz) "Data Bit 1. Hi-Z state when C\S\ is HIGH, when R/C is LOW or when a conversion is in progress.", 22 D0 (LSB) (hiz) "Data Bit 0. Least Significant Bit (LSB) of conversion results. Hi-Z state when C\S\ is HIGH, when R/C\ is LOW or when a conversion is in progress.", 23 VS- (power) "Negative supply input. Nominally -5V. Decouple to analog ground with 0.1uF ceramic and 10uF tantalum capacitors.", 24 R/~{C} (in) "Read/convert input. With R/C\ HIGH, C\S\ going LOW will enable the output data bits if a conversion is not in progress. With R/C\ LOW, C\S\ going LOW will start a conversion if one is not already in progress.", 25 ~{CS} (in) "Chip select. With R/C\ LOW, C\S\ going LOW will initiate a conversion if one is not already in progress. With R/C\ HIGH, CS going LOW will enable the output data bits if a conversion is not in progress.", 26 ~{BUSY} (out) "Busy output. Falls when a conversion is started, and remains LOW until the conversion is completed. With C\S\ LOW and R/C\ HIGH, output data will be valid when B\U\S\Y\ rises, so that the rising edge can be used to latch the (See Datasheet)", 27 VS+ (power) "Positive supply input. Nominally +5V. Connect directly to pin 28.", 28 VS+ (power) "Positive supply input. Nominally +5V. Connect directly to pin 27. Decouple to ground with 0.1uF ceramic and 10uF tantalum capacitors."

## ADS7815U/1K
designator U?
16-Bit 250 kHz Sampling CMOS ADC, -25 to 85 degC, 28-pin SOIC (DW28), Green (RoHS & no Sb/Br); Manufacturer: Texas Instruments; PartNumber: ADS7815U/1K; # Input Channels: 1; Analog Voltage AV/DD(Max)(V): 5.25; Analog Voltage AV/DD(Min)(V): 4.75; Architecture: SAR; INL(Max)(+/-LSB): 4; Interface: Parallel CMOS; Resolution(Bits): 16; Sample Rate (max)(SPS): 250k; SFDR(dB): 100; SubFamily: Precision ADC (<=10MSPS); DatasheetVersion: SBAS065B; PackageVersion: 4040000-6/G, 01/2011; PackageReference: DW28; PackageDescription: 28-Pin Plastic Small Outline, Body 17.90 x 7.50 mm, Pitch 1.27 mm; Supplier 1: Digi-Key; Supplier Part Number 1: DDC118IRTCTG4-ND; Supplier 2: Mouser; Supplier Part Number 2: 595-DDC118IRTCTG4; Digital Supply(Max)(V): 5.25; Digital Supply(Min)(V): 4.75; Eco-Plan: Green (RoHS & no Sb/Br); Mounting Technology: Surface Mount; Code_JEDEC: MS-013; ComponentLink1Description: Manufacturer URL; ComponentLink1URL: http://www.ti.com/; ComponentLink2Description: Datasheet; ComponentLink2URL: http://www.ti.com/general/docs/lit/getliterature.tsp?genericPartNumber=ADS7815&fileType=pdf; ComponentLink3Description: Package Specification; ComponentLink3URL: http://www.ti.com/lit/ml/mpds175a/mpds175a.pdf
footprint TI-DW28_N (SOIC, 28-Leads, Body 17.9x7.5mm, Pitch 1.27mm, IPC Medium Density)
footprint TI-DW28_L (SOIC, 28-Leads, Body 17.9x7.5mm, Pitch 1.27mm, IPC High Density)
footprint TI-DW28_M (SOIC, 28-Leads, Body 17.9x7.5mm, Pitch 1.27mm, IPC Low Density)
pins: 1 VIN (in) "Analog Input. Full-scale input range is +/-2.5V.", 2 GND (power) "Ground.", 3 REF (io) "Reference Input/Output. Outputs internal reference of +2.5V nominal. Can also be driven by external system reference. In both cases, connect to ground with a 0.1uF ceramic capacitor in parallel with 2.2uF tantalum capacitor.", 4 CAP "Reference compensation capacitor. Use a parallel combination of a 0.1uF ceramic capacitor and a 2.2uF tantalum capacitor.", 5 GND (power) "Ground.", 6 D15 (MSB) (hiz) "Data Bit 15. Most Significant Bit (MSB) of conversion results. Hi-Z state when C\S\ is HIGH, when R/C\is LOW or when a conversion is in progress.", 7 D14 (hiz) "Data Bit 14. Hi-Z state when C\S\ is HIGH, when R/C is LOW or when a conversion is in progress.", 8 D13 (hiz) "Data Bit 13. Hi-Z state when C\S\ is HIGH, when R/C is LOW or when a conversion is in progress.", 9 D12 (hiz) "Data Bit 12. Hi-Z state when C\S\ is HIGH, when R/C is LOW or when a conversion is in progress.", 10 D11 (hiz) "Data Bit 11. Hi-Z state when C\S\ is HIGH, when R/C is LOW or when a conversion is in progress.", 11 D10 (hiz) "Data Bit 10. Hi-Z state when C\S\ is HIGH, when R/C is LOW or when a conversion is in progress.", 12 D9 (hiz) "Data Bit 9. Hi-Z state when C\S\ is HIGH, when R/C is LOW or when a conversion is in progress.", 13 D8 (hiz) "Data Bit 8. Hi-Z state when C\S\ is HIGH, when R/C is LOW or when a conversion is in progress.", 14 GND (power) "Ground.", 15 D7 (hiz) "Data Bit 7. Hi-Z state when C\S\ is HIGH, when R/C is LOW or when a conversion is in progress.", 16 D6 (hiz) "Data Bit 6. Hi-Z state when C\S\ is HIGH, when R/C is LOW or when a conversion is in progress.", 17 D5 (hiz) "Data Bit 5. Hi-Z state when C\S\ is HIGH, when R/C is LOW or when a conversion is in progress.", 18 D4 (hiz) "Data Bit 4. Hi-Z state when C\S\ is HIGH, when R/C is LOW or when a conversion is in progress.", 19 D3 (hiz) "Data Bit 3. Hi-Z state when C\S\ is HIGH, when R/C is LOW or when a conversion is in progress.", 20 D2 (hiz) "Data Bit 2. Hi-Z state when C\S\ is HIGH, when R/C is LOW or when a conversion is in progress.", 21 D1 (hiz) "Data Bit 1. Hi-Z state when C\S\ is HIGH, when R/C is LOW or when a conversion is in progress.", 22 D0 (LSB) (hiz) "Data Bit 0. Least Significant Bit (LSB) of conversion results. Hi-Z state when C\S\ is HIGH, when R/C\ is LOW or when a conversion is in progress.", 23 VS- (power) "Negative supply input. Nominally -5V. Decouple to analog ground with 0.1uF ceramic and 10uF tantalum capacitors.", 24 R/~{C} (in) "Read/convert input. With R/C\ HIGH, C\S\ going LOW will enable the output data bits if a conversion is not in progress. With R/C\ LOW, C\S\ going LOW will start a conversion if one is not already in progress.", 25 ~{CS} (in) "Chip select. With R/C\ LOW, C\S\ going LOW will initiate a conversion if one is not already in progress. With R/C\ HIGH, CS going LOW will enable the output data bits if a conversion is not in progress.", 26 ~{BUSY} (out) "Busy output. Falls when a conversion is started, and remains LOW until the conversion is completed. With C\S\ LOW and R/C\ HIGH, output data will be valid when B\U\S\Y\ rises, so that the rising edge can be used to latch the (See Datasheet)", 27 VS+ (power) "Positive supply input. Nominally +5V. Connect directly to pin 28.", 28 VS+ (power) "Positive supply input. Nominally +5V. Connect directly to pin 27. Decouple to ground with 0.1uF ceramic and 10uF tantalum capacitors."

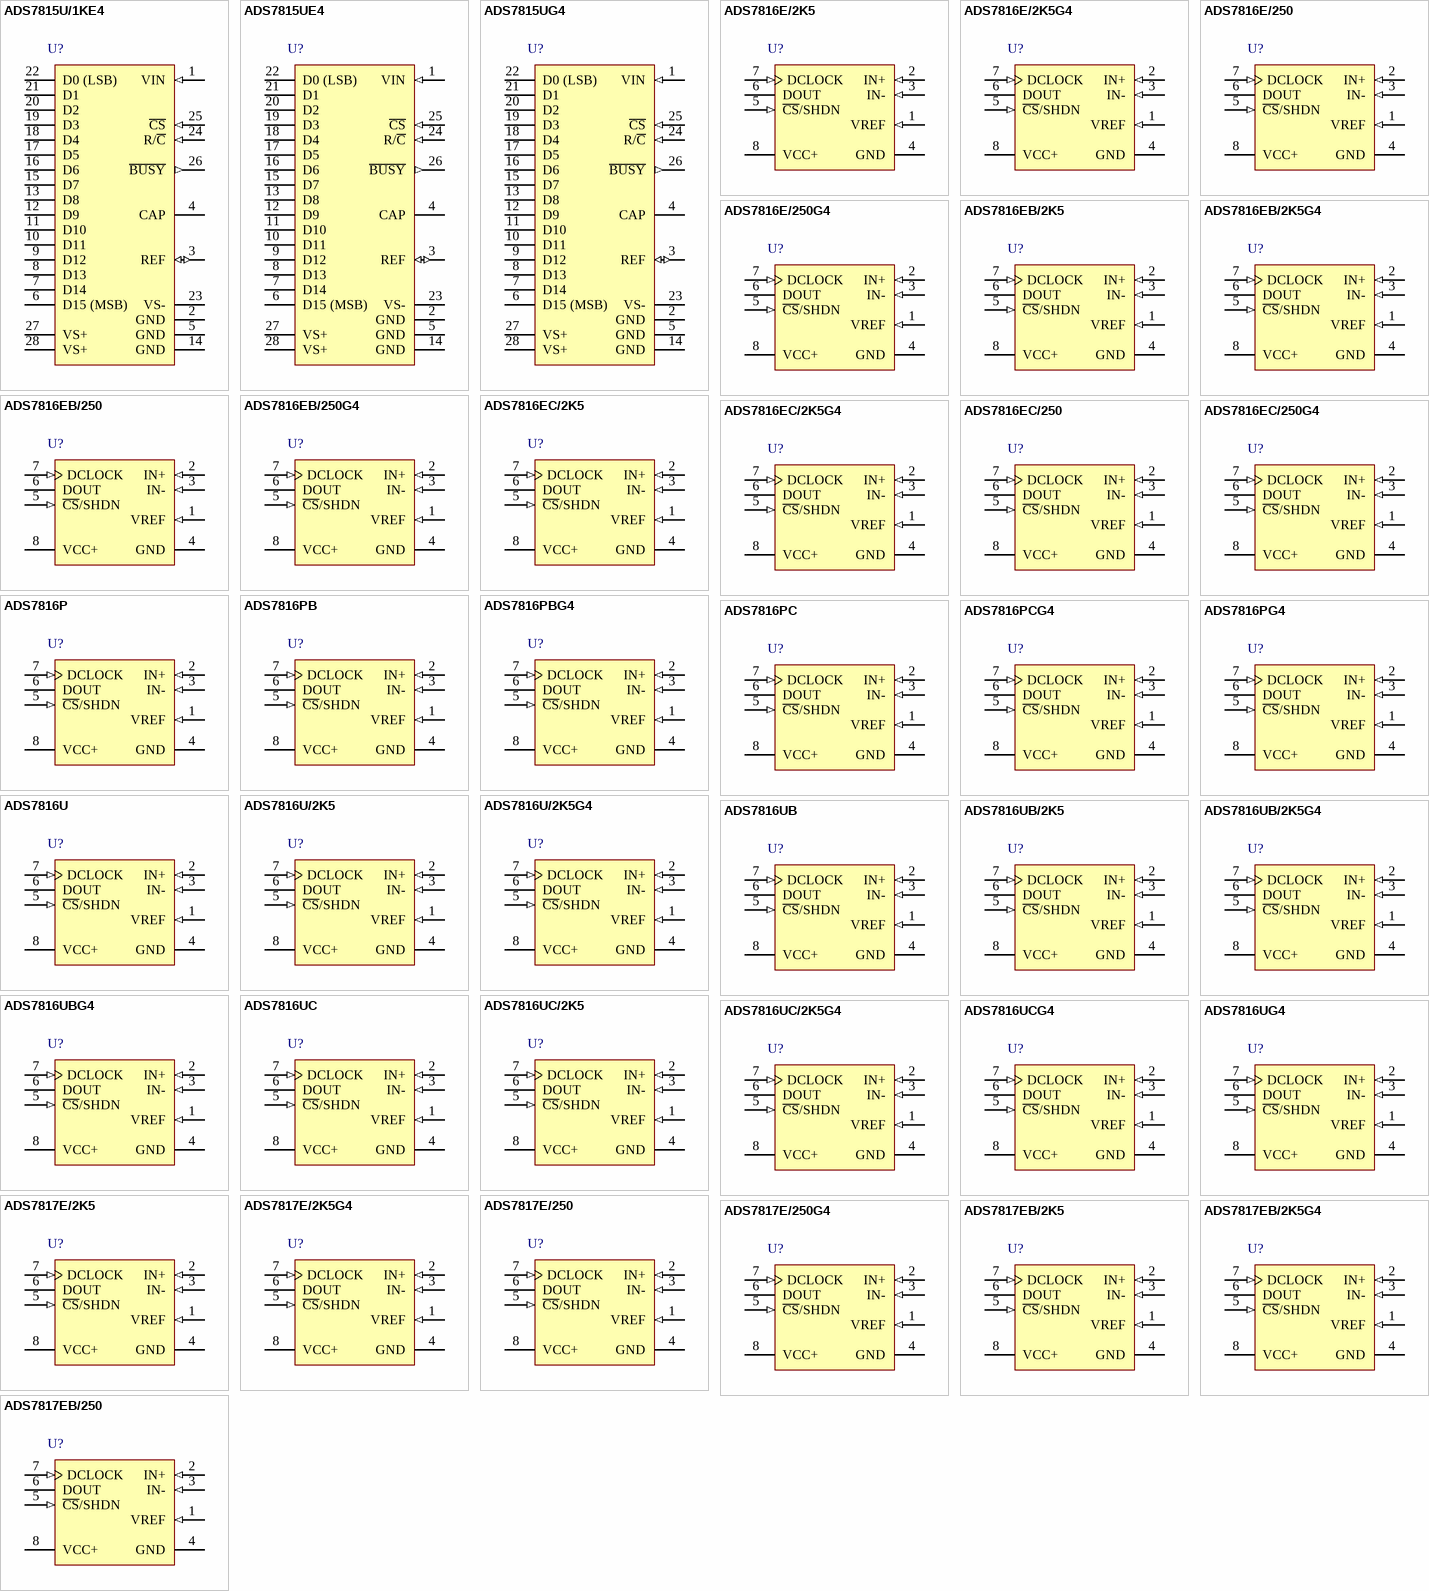
[diagram p59: symbols ADS7815U/1KE4 to ADS7817EB/250]

## ADS7815U/1KE4
designator U?
16-Bit 250 kHz Sampling CMOS ADC, -25 to 85 degC, 28-pin SOIC (DW28), Green (RoHS & no Sb/Br); Manufacturer: Texas Instruments; PartNumber: ADS7815U/1KE4; # Input Channels: 1; Analog Voltage AV/DD(Max)(V): 5.25; Analog Voltage AV/DD(Min)(V): 4.75; Architecture: SAR; INL(Max)(+/-LSB): 4; Interface: Parallel CMOS; Resolution(Bits): 16; Sample Rate (max)(SPS): 250k; SFDR(dB): 100; SubFamily: Precision ADC (<=10MSPS); DatasheetVersion: SBAS065B; PackageVersion: 4040000-6/G, 01/2011; PackageReference: DW28; PackageDescription: 28-Pin Plastic Small Outline, Body 17.90 x 7.50 mm, Pitch 1.27 mm; Supplier 1: Digi-Key; Supplier Part Number 1: DDC114IRTCR-ND; Supplier 2: Mouser; Supplier Part Number 2: 595-DDC114IRTCR; Digital Supply(Max)(V): 5.25; Digital Supply(Min)(V): 4.75; Eco-Plan: Green (RoHS & no Sb/Br); Mounting Technology: Surface Mount; Code_JEDEC: MS-013; ComponentLink1Description: Manufacturer URL; ComponentLink1URL: http://www.ti.com/; ComponentLink2Description: Datasheet; ComponentLink2URL: http://www.ti.com/general/docs/lit/getliterature.tsp?genericPartNumber=ADS7815&fileType=pdf; ComponentLink3Description: Package Specification; ComponentLink3URL: http://www.ti.com/lit/ml/mpds175a/mpds175a.pdf
footprint TI-DW28_N (SOIC, 28-Leads, Body 17.9x7.5mm, Pitch 1.27mm, IPC Medium Density)
footprint TI-DW28_L (SOIC, 28-Leads, Body 17.9x7.5mm, Pitch 1.27mm, IPC High Density)
footprint TI-DW28_M (SOIC, 28-Leads, Body 17.9x7.5mm, Pitch 1.27mm, IPC Low Density)
pins: 1 VIN (in) "Analog Input. Full-scale input range is +/-2.5V.", 2 GND (power) "Ground.", 3 REF (io) "Reference Input/Output. Outputs internal reference of +2.5V nominal. Can also be driven by external system reference. In both cases, connect to ground with a 0.1uF ceramic capacitor in parallel with 2.2uF tantalum capacitor.", 4 CAP "Reference compensation capacitor. Use a parallel combination of a 0.1uF ceramic capacitor and a 2.2uF tantalum capacitor.", 5 GND (power) "Ground.", 6 D15 (MSB) (hiz) "Data Bit 15. Most Significant Bit (MSB) of conversion results. Hi-Z state when C\S\ is HIGH, when R/C\is LOW or when a conversion is in progress.", 7 D14 (hiz) "Data Bit 14. Hi-Z state when C\S\ is HIGH, when R/C is LOW or when a conversion is in progress.", 8 D13 (hiz) "Data Bit 13. Hi-Z state when C\S\ is HIGH, when R/C is LOW or when a conversion is in progress.", 9 D12 (hiz) "Data Bit 12. Hi-Z state when C\S\ is HIGH, when R/C is LOW or when a conversion is in progress.", 10 D11 (hiz) "Data Bit 11. Hi-Z state when C\S\ is HIGH, when R/C is LOW or when a conversion is in progress.", 11 D10 (hiz) "Data Bit 10. Hi-Z state when C\S\ is HIGH, when R/C is LOW or when a conversion is in progress.", 12 D9 (hiz) "Data Bit 9. Hi-Z state when C\S\ is HIGH, when R/C is LOW or when a conversion is in progress.", 13 D8 (hiz) "Data Bit 8. Hi-Z state when C\S\ is HIGH, when R/C is LOW or when a conversion is in progress.", 14 GND (power) "Ground.", 15 D7 (hiz) "Data Bit 7. Hi-Z state when C\S\ is HIGH, when R/C is LOW or when a conversion is in progress.", 16 D6 (hiz) "Data Bit 6. Hi-Z state when C\S\ is HIGH, when R/C is LOW or when a conversion is in progress.", 17 D5 (hiz) "Data Bit 5. Hi-Z state when C\S\ is HIGH, when R/C is LOW or when a conversion is in progress.", 18 D4 (hiz) "Data Bit 4. Hi-Z state when C\S\ is HIGH, when R/C is LOW or when a conversion is in progress.", 19 D3 (hiz) "Data Bit 3. Hi-Z state when C\S\ is HIGH, when R/C is LOW or when a conversion is in progress.", 20 D2 (hiz) "Data Bit 2. Hi-Z state when C\S\ is HIGH, when R/C is LOW or when a conversion is in progress.", 21 D1 (hiz) "Data Bit 1. Hi-Z state when C\S\ is HIGH, when R/C is LOW or when a conversion is in progress.", 22 D0 (LSB) (hiz) "Data Bit 0. Least Significant Bit (LSB) of conversion results. Hi-Z state when C\S\ is HIGH, when R/C\ is LOW or when a conversion is in progress.", 23 VS- (power) "Negative supply input. Nominally -5V. Decouple to analog ground with 0.1uF ceramic and 10uF tantalum capacitors.", 24 R/~{C} (in) "Read/convert input. With R/C\ HIGH, C\S\ going LOW will enable the output data bits if a conversion is not in progress. With R/C\ LOW, C\S\ going LOW will start a conversion if one is not already in progress.", 25 ~{CS} (in) "Chip select. With R/C\ LOW, C\S\ going LOW will initiate a conversion if one is not already in progress. With R/C\ HIGH, CS going LOW will enable the output data bits if a conversion is not in progress.", 26 ~{BUSY} (out) "Busy output. Falls when a conversion is started, and remains LOW until the conversion is completed. With C\S\ LOW and R/C\ HIGH, output data will be valid when B\U\S\Y\ rises, so that the rising edge can be used to latch the (See Datasheet)", 27 VS+ (power) "Positive supply input. Nominally +5V. Connect directly to pin 28.", 28 VS+ (power) "Positive supply input. Nominally +5V. Connect directly to pin 27. Decouple to ground with 0.1uF ceramic and 10uF tantalum capacitors."